# Altium schematic symbol library KF762connector.SchLib: 1 symbol
Pins are listed as number, name and electrical type; pins without a type are passive.

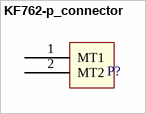
[diagram p0: symbol KF762-p_connector]

## KF762-p_connector
designator P?  (value not drawn)
footprint KF762 (Footprint not found)
pins: 1 MT1, 2 MT2